# EAGLE library part RECT_1X10 (library dsantoro-conn)
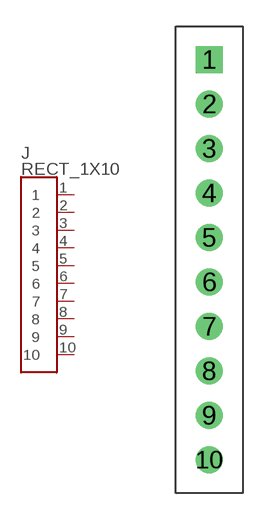
[diagram p13: symbol with the pads of RECT_1X10_0.1; footprint RECT_1X10_0.1]

Designator prefix J

## RECT_1X10  [RECT_1X10_0.1]
1  1
2  2
3  3
4  4
5  5
6  6
7  7
8  8
9  9
10  10

## Footprint RECT_1X10_0.1 (pad centres in mm)
drill 1.02 square: 1 0,0
drill 1.02: 2 0,-2.54; 3 0,-5.08; 4 0,-7.62; 5 0,-10.16; 6 0,-12.7; 7 0,-15.24; 8 0,-17.78; 9 0,-20.32; 10 0,-22.86